# EAGLE library part DRV8835-POLOLU (library SW_Motor)
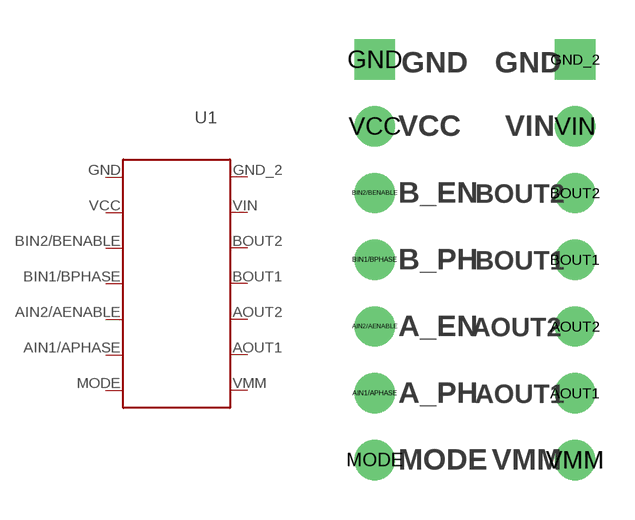
[diagram p3: symbol with the pads of DRV8835-POLOLU; footprint DRV8835-POLOLU]

Designator prefix U1

## DRV8835-POLOLU (CATEGORY: Motor)  [DRV8835-POLOLU]
AIN1/APHASE  AIN1/APHASE
AIN2/AENABLE  AIN2/AENABLE
AOUT1  AOUT1
AOUT2  AOUT2
BIN1/BPHASE  BIN1/BPHASE
BIN2/BENABLE  BIN2/BENABLE
BOUT1  BOUT1
BOUT2  BOUT2
GND  GND
GND_2  GND_2
MODE  MODE
VCC  VCC
VIN  VIN
VMM  VMM

## Footprint DRV8835-POLOLU (pad centres in mm)
drill 1.02: AIN1/APHASE -3.81,-12.7; AIN2/AENABLE -3.81,-10.16; AOUT1 3.81,-12.7; AOUT2 3.81,-10.16; BIN1/BPHASE -3.81,-7.62; BIN2/BENABLE -3.81,-5.08; BOUT1 3.81,-7.62; BOUT2 3.81,-5.08; MODE -3.81,-15.24; VCC -3.81,-2.54; VIN 3.81,-2.54; VMM 3.81,-15.24
drill 1.02 square: GND -3.81,0; GND_2 3.81,0